# EAGLE library part BLUETOOTH (library 1-LDA_Board)
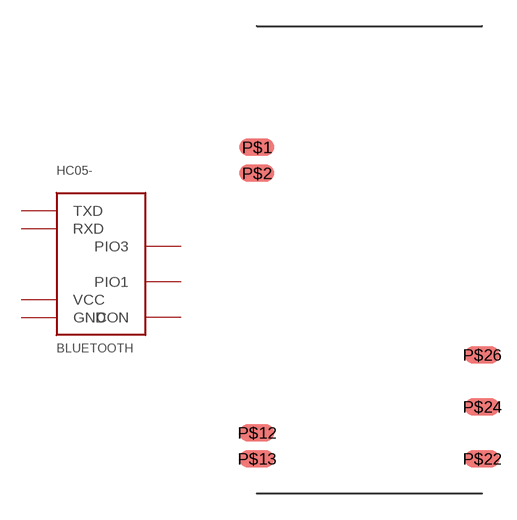
[diagram p6: symbol with the pads of BLUETOOTH; footprint BLUETOOTH]

Designator prefix HC05-

## BLUETOOTH  [BLUETOOTH]
P$1  TXD
P$2  RXD
P$12  VCC
P$13  GND
P$22  CON
P$24  PIO1
P$26  PIO3

## Footprint BLUETOOTH (pad centres in mm)
smd 2 x 1: P$1 0,0; P$2 0,-1.5; P$12 0,-16.5; P$13 0,-18; P$22 13,-18; P$24 13,-15; P$26 13,-12